# EAGLE library part EBM12DRXH (library FutureSat)
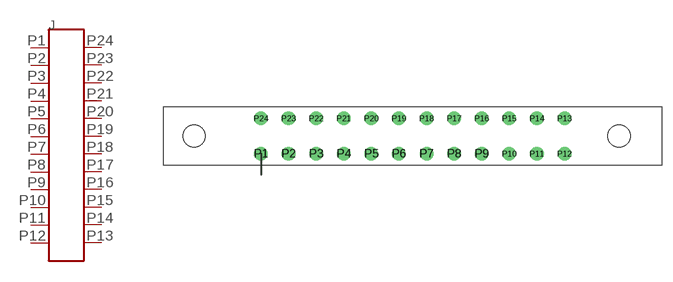
[diagram p0: symbol with the pads of EBM12DRXH; footprint EBM12DRXH]

Designator prefix J

## EBM12DRXH  [EBM12DRXH]
P1  P$1
P2  P$2
P3  P$3
P4  P$4
P5  P$5
P6  P$6
P7  P$7
P8  P$8
P9  P$9
P10  P$10
P11  P$11
P12  P$12
P13  P$13
P14  P$14
P15  P$15
P16  P$16
P17  P$17
P18  P$18
P19  P$19
P20  P$20
P21  P$21
P22  P$22
P23  P$23
P24  P$24

## Footprint EBM12DRXH (pad centres in mm)
drill 1.3: P1 -21.78,-2.54; P2 -17.82,-2.54; P3 -13.86,-2.54; P4 -9.9,-2.54; P5 -5.94,-2.54; P6 -1.98,-2.54; P7 1.98,-2.54; P8 5.94,-2.54; P9 9.9,-2.54; P10 13.86,-2.54; P11 17.82,-2.54; P12 21.78,-2.54; P13 21.78,2.54; P14 17.82,2.54; P15 13.86,2.54; P16 9.9,2.54; P17 5.94,2.54; P18 1.98,2.54; P19 -1.98,2.54; P20 -5.94,2.54; P21 -9.9,2.54; P22 -13.86,2.54; P23 -17.82,2.54; P24 -21.78,2.54
hole 3.18 at -31.355,0
hole 3.18 at 29.605,0